# Altium schematic symbol library Analog_DAC.SchLib: 132 symbols (part 2 of 2)
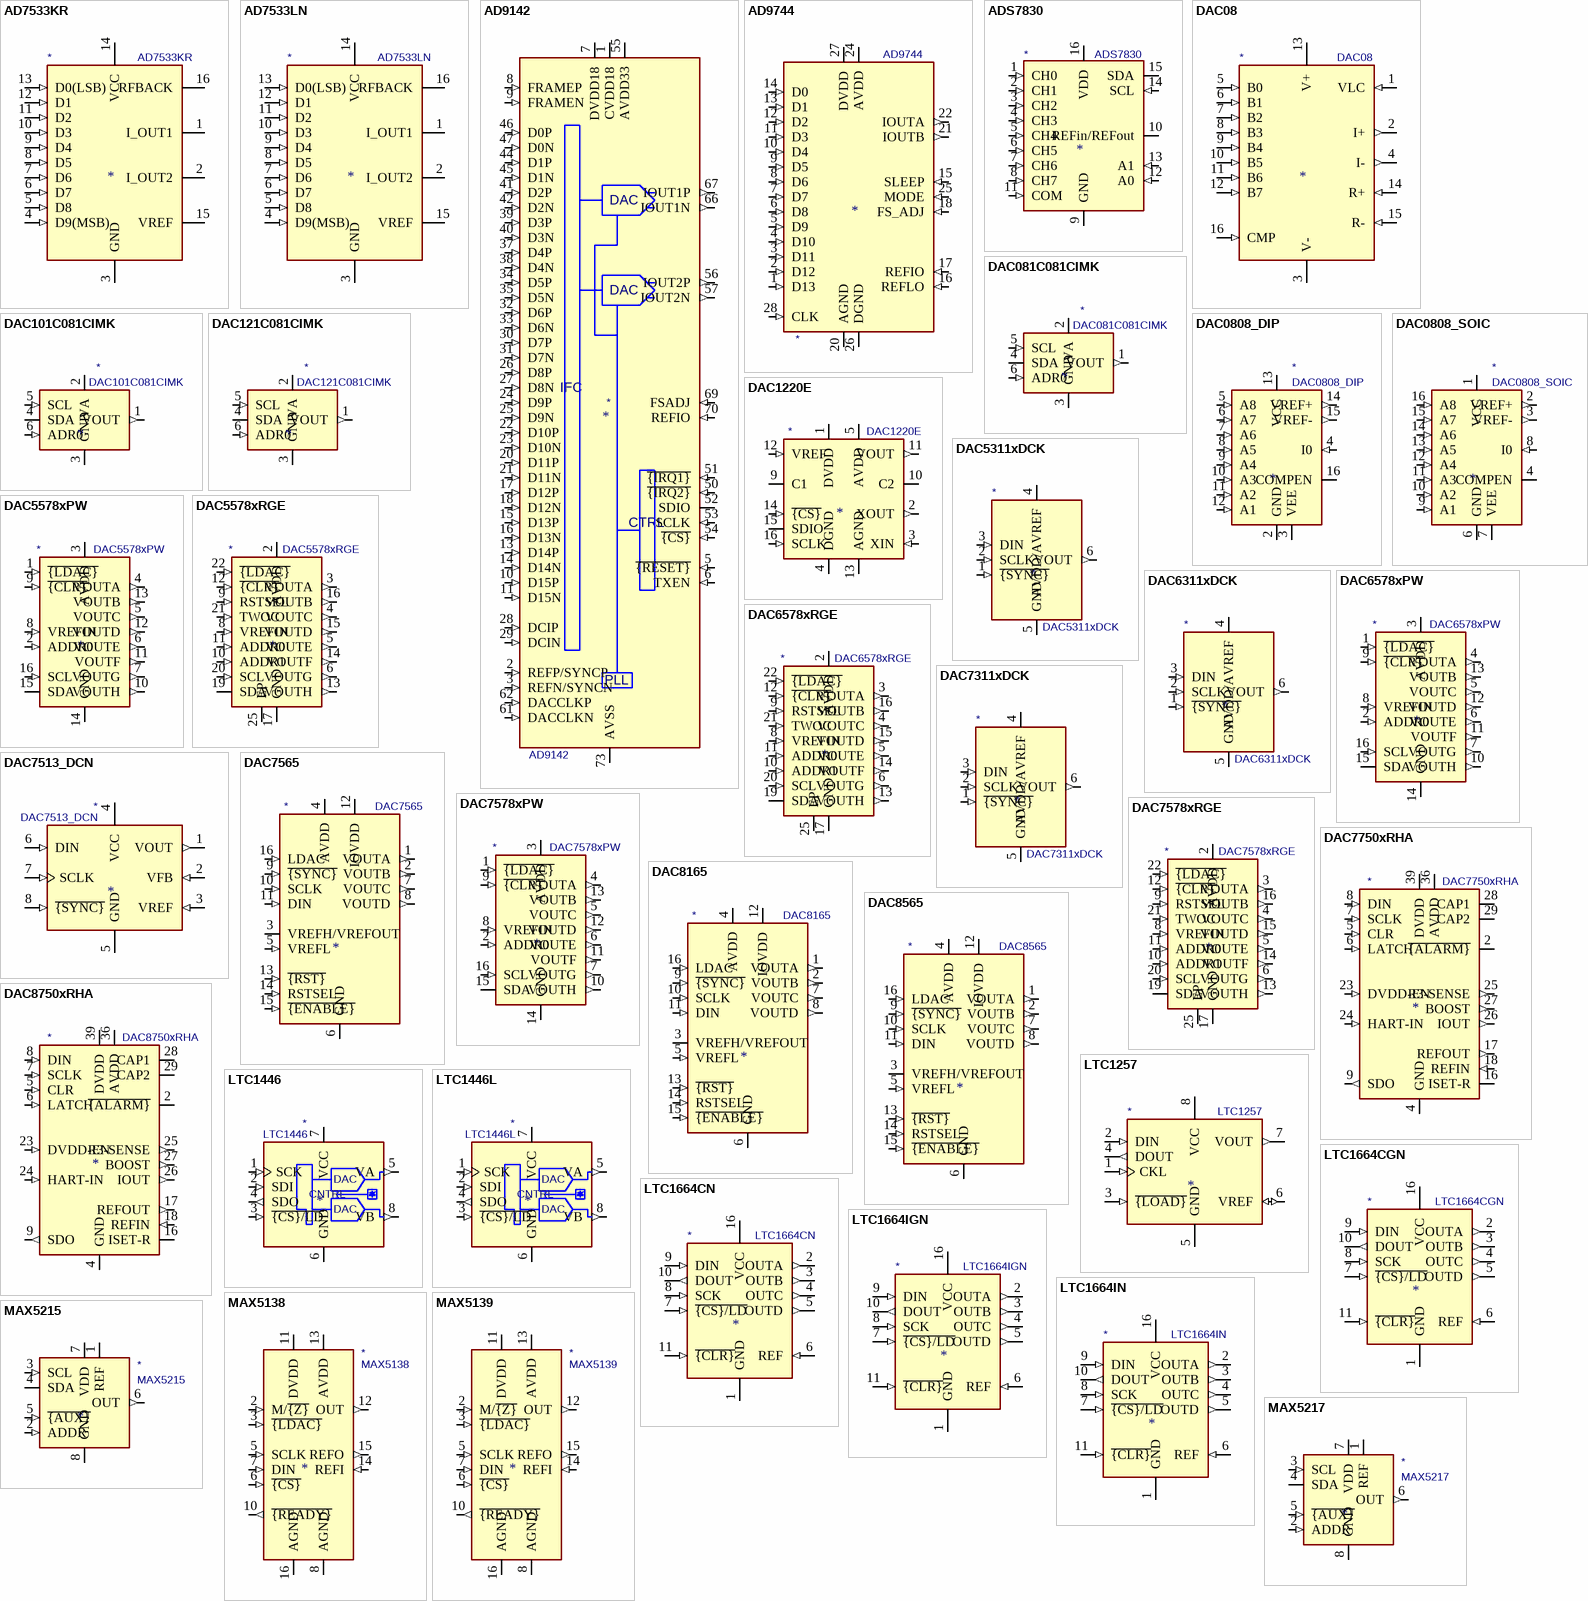
[diagram p5: symbols AD7533KR to MAX5217]

## MAX5138
designator *  value MAX5138
ki_keywords: 16-bit DAC 1CH; ki_description: Low-Power, Single, 16-Bit, Buffered Voltage-Output DAC; ki_fp_filters: TQFN*1EP*3x3mm*P0.5mm*; Footprint: Package_DFN_QFN:TQFN-16-1EP_3x3mm_P0.5mm_EP1.23x1.23mm; Supplier: https://datasheets.maximintegrated.com/en/ds/MAX5138-MAX5139.pdf
footprint TQFN-16-1EP_3x3mm_P0.5mm_EP1.23x1.23mm
pins: 1 NC (in) hidden, 2 M/~{{Z}} (in), 3 ~{{LDAC}} (in), 4 NC (in) hidden, 5 SCLK (in), 6 ~{{CS}} (in), 7 DIN (in), 8 AGND (power), 9 NC (in) hidden, 10 ~{{READY}} (out), 11 DVDD (power), 12 OUT (out), 13 AVDD (power), 14 REFI (in), 15 REFO (out), 16 AGND (power)

## MAX5139
designator *  value MAX5139
ki_keywords: 12-bit DAC 1CH; ki_description: Low-Power, Single, 12-Bit, Buffered Voltage-Output DAC; ki_fp_filters: TQFN*1EP*3x3mm*P0.5mm*; Footprint: Package_DFN_QFN:TQFN-16-1EP_3x3mm_P0.5mm_EP1.23x1.23mm; Supplier: https://datasheets.maximintegrated.com/en/ds/MAX5138-MAX5139.pdf
footprint TQFN-16-1EP_3x3mm_P0.5mm_EP1.23x1.23mm
pins: 1 NC (in) hidden, 2 M/~{{Z}} (in), 3 ~{{LDAC}} (in), 4 NC (in) hidden, 5 SCLK (in), 6 ~{{CS}} (in), 7 DIN (in), 8 AGND (power), 9 NC (in) hidden, 10 ~{{READY}} (out), 11 DVDD (power), 12 OUT (out), 13 AVDD (power), 14 REFI (in), 15 REFO (out), 16 AGND (power)

## MAX5215
designator *  value MAX5215
ki_keywords: DA 14 Bit 1 ch; ki_description: Digital to analog, 14 Bit, 1 ch, 2.7 - 5.5 VDD, I2C, uMAX-8; ki_fp_filters: MSOP*3x3mm*P0.65mm*; Footprint: Package_SO:MSOP-8_3x3mm_P0.65mm; Supplier: https://datasheets.maximintegrated.com/en/ds/MAX5215-MAX5217.pdf
footprint MSOP-8_3x3mm_P0.65mm
pins: 1 REF (power), 2 ADDR (in), 3 SCL (in), 4 SDA (io), 5 ~{{AUX}} (in), 6 OUT (out), 7 VDD (power), 8 GND (power)

## MAX5217
designator *  value MAX5217
ki_keywords: DA 16 Bit 1 ch; ki_description: Digital to analog, 16 Bit, 1 ch, 2.7 - 5.5 VDD, I2C, uMAX-8; ki_fp_filters: MSOP*3x3mm*P0.65mm*; Footprint: Package_SO:MSOP-8_3x3mm_P0.65mm; Supplier: https://datasheets.maximintegrated.com/en/ds/MAX5215-MAX5217.pdf
footprint MSOP-8_3x3mm_P0.65mm
pins: 1 REF (power), 2 ADDR (in), 3 SCL (in), 4 SDA (io), 5 ~{{AUX}} (in), 6 OUT (out), 7 VDD (power), 8 GND (power)

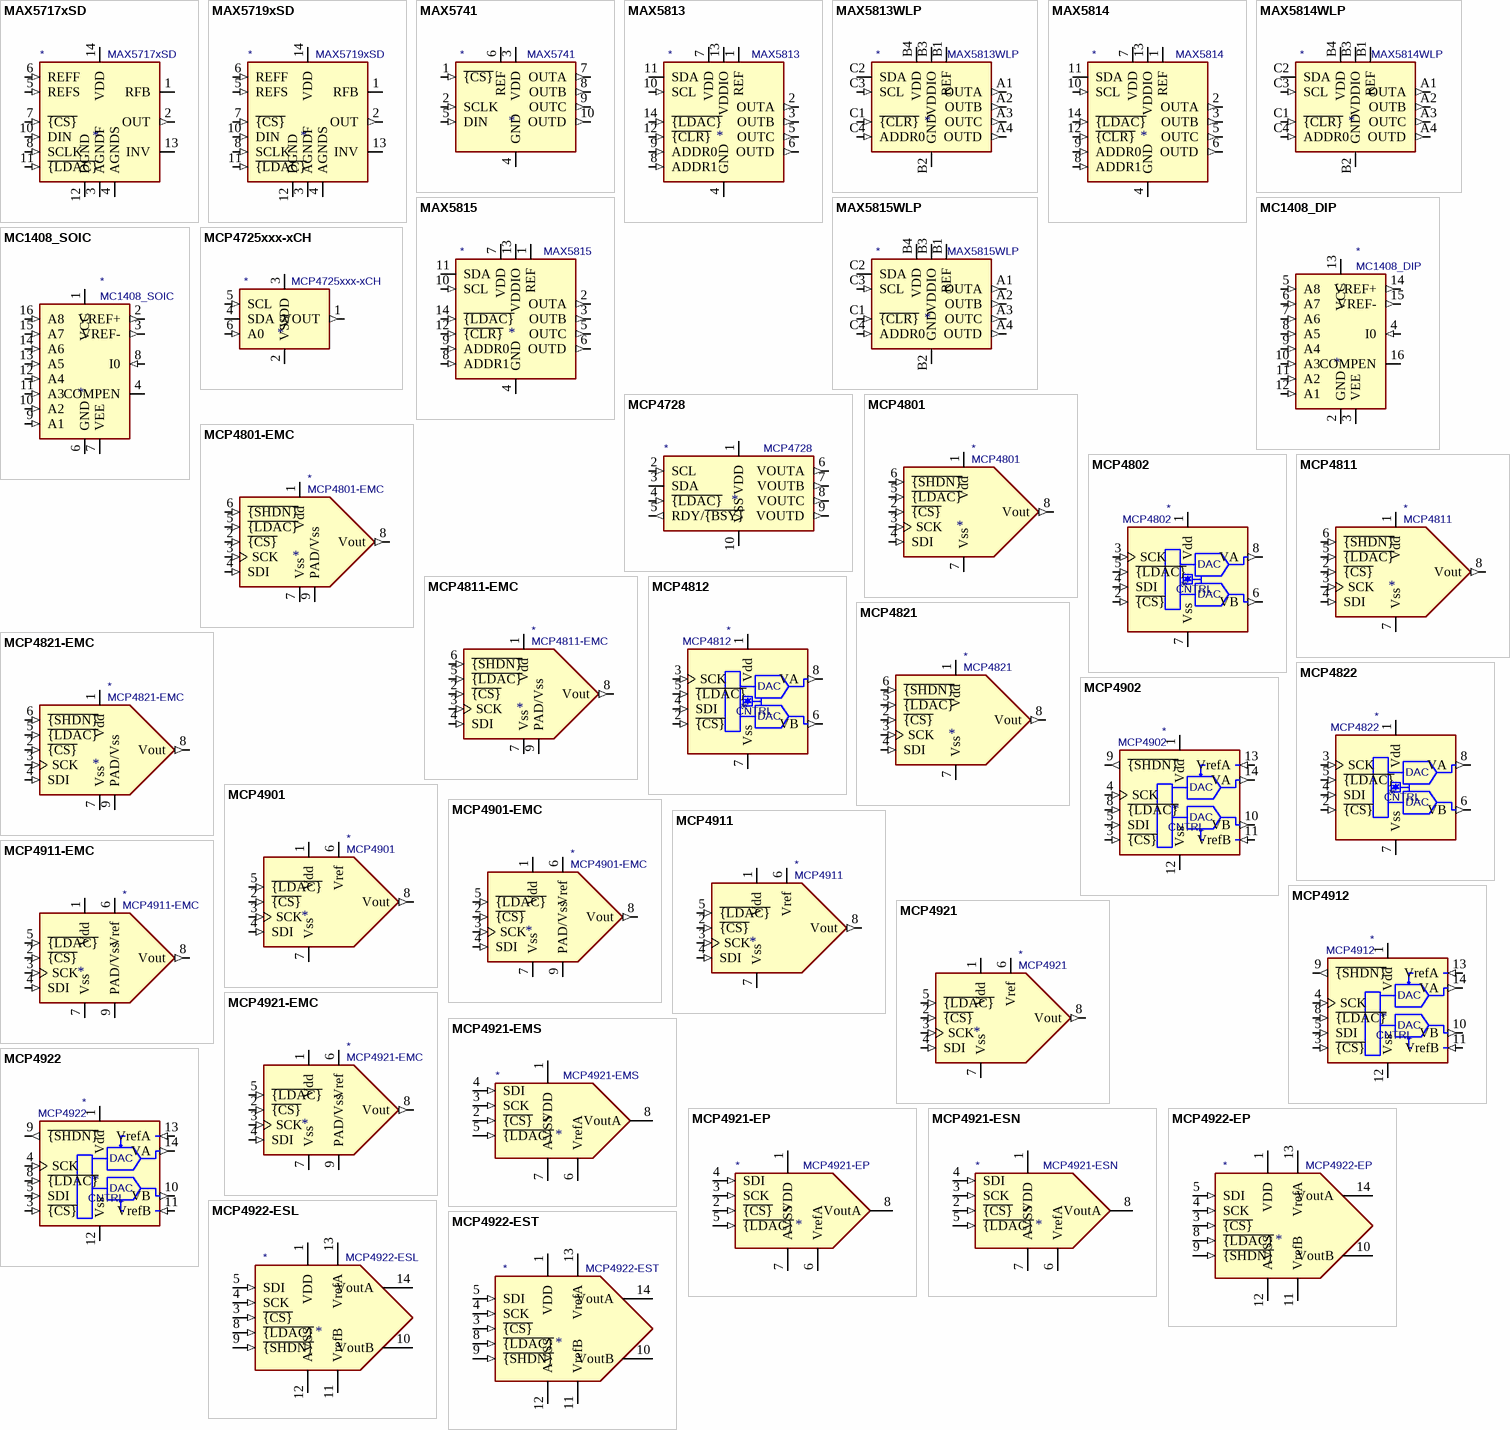
[diagram p3: symbols MAX5717xSD to MCP4922-EST]

## MAX5717xSD
designator *  value MAX5717xSD
ki_keywords: DAC; ki_description: 16-bit Voltage Digital-to-Analog converter, SOIC-14; ki_fp_filters: SOIC*3.9x8.7mm*P1.27mm*; Footprint: Package_SO:SOIC-14_3.9x8.7mm_P1.27mm; Supplier: https://datasheets.maximintegrated.com/en/ds/MAX5717-MAX5719.pdf
footprint SOIC-14_3.9x8.7mm_P1.27mm
pins: 1 RFB, 2 OUT (out), 3 AGNDF (power), 4 AGNDS (power), 5 REFS (in), 6 REFF (in), 7 ~{{CS}} (in), 8 SCLK (in), 9 NC (in) hidden, 10 DIN (in), 11 ~{{LDAC}} (in), 12 DGND (power), 13 INV, 14 VDD (power)

## MAX5719xSD
designator *  value MAX5719xSD
ki_keywords: DAC; ki_description: 20-bit Voltage Digital-to-Analog converter, SOIC-14; ki_fp_filters: SOIC*3.9x8.7mm*P1.27mm*; Footprint: Package_SO:SOIC-14_3.9x8.7mm_P1.27mm; Supplier: https://datasheets.maximintegrated.com/en/ds/MAX5717-MAX5719.pdf
footprint SOIC-14_3.9x8.7mm_P1.27mm
pins: 1 RFB, 2 OUT (out), 3 AGNDF (power), 4 AGNDS (power), 5 REFS (in), 6 REFF (in), 7 ~{{CS}} (in), 8 SCLK (in), 9 NC (in) hidden, 10 DIN (in), 11 ~{{LDAC}} (in), 12 DGND (power), 13 INV, 14 VDD (power)

## MAX5741
designator *  value MAX5741
ki_keywords: DA 8 Bit 4 ch; ki_description: Digital to analog, 10 Bit, 4 ch, 2.7 - 5.5 VDD, SPI, uMAX-10; ki_fp_filters: MSOP*3x3mm?P0.5mm*; Footprint: Package_SO:MSOP-10_3x3mm_P0.5mm; Supplier: https://datasheets.maximintegrated.com/en/ds/MAX5741.pdf
footprint MSOP-10_3x3mm_P0.5mm
pins: 1 ~{{CS}} (in), 2 SCLK (in), 3 VDD (power), 4 GND (power), 5 DIN (in), 6 REF (power), 7 OUTA (out), 8 OUTB (out), 9 OUTC (out), 10 OUTD (out)

## MAX5813
designator *  value MAX5813
ki_keywords: DA 8 Bit 4 ch; ki_description: Digital to analog, 8 Bit, 4 ch, 2.7 - 5.5 VDD, I2C, TSSOP-14; ki_fp_filters: *TSSOP*14*4.4*; Supplier: http://datasheets.maximintegrated.com/en/ds/MAX5813-MAX5815.pdf
pins: 1 REF (power), 2 OUTA (out), 3 OUTB (out), 4 GND (power), 5 OUTC (out), 6 OUTD (out), 7 VDD (power), 8 ADDR1 (in), 9 ADDR0 (in), 10 SCL (in), 11 SDA (io), 12 ~{{CLR}} (in), 13 VDDIO (power), 14 ~{{LDAC}} (in)

## MAX5813WLP
designator *  value MAX5813WLP
ki_keywords: DA 8 Bit 4 ch; ki_description: Digital to analog, 8 Bit, 4 ch, 2.7 - 5.5 VDD, I2C, TSSOP-14, Maxim_WLP-12; ki_fp_filters: *Maxim*WLP*12*; Supplier: http://datasheets.maximintegrated.com/en/ds/MAX5813-MAX5815.pdf
pins: A1 OUTA (out), A2 OUTB (out), A3 OUTC (out), A4 OUTD (out), B1 REF (power), B2 GND (power), B3 VDDIO (power), B4 VDD (power), C1 ~{{CLR}} (in), C2 SDA (io), C3 SCL (in), C4 ADDR0 (in)

## MAX5814
designator *  value MAX5814
ki_keywords: DA 10 Bit 4 ch; ki_description: Digital to analog, 10 Bit, 4 ch, 2.7 - 5.5 VDD, I2C, TSSOP-14; ki_fp_filters: *TSSOP*14*4.4*; Supplier: http://datasheets.maximintegrated.com/en/ds/MAX5813-MAX5815.pdf
pins: 1 REF (power), 2 OUTA (out), 3 OUTB (out), 4 GND (power), 5 OUTC (out), 6 OUTD (out), 7 VDD (power), 8 ADDR1 (in), 9 ADDR0 (in), 10 SCL (in), 11 SDA (io), 12 ~{{CLR}} (in), 13 VDDIO (power), 14 ~{{LDAC}} (in)

## MAX5814WLP
designator *  value MAX5814WLP
ki_keywords: DA 10 Bit 4 ch; ki_description: Digital to analog, 10 Bit, 4 ch, 2.7 - 5.5 VDD, I2C, TSSOP-14, Maxim_WLP-12; ki_fp_filters: *Maxim*WLP*12*; Supplier: http://datasheets.maximintegrated.com/en/ds/MAX5813-MAX5815.pdf
pins: A1 OUTA (out), A2 OUTB (out), A3 OUTC (out), A4 OUTD (out), B1 REF (power), B2 GND (power), B3 VDDIO (power), B4 VDD (power), C1 ~{{CLR}} (in), C2 SDA (io), C3 SCL (in), C4 ADDR0 (in)

## MAX5815
designator *  value MAX5815
ki_keywords: DA 12 Bit 4 ch; ki_description: Digital to analog, 12 Bit, 4 ch, 2.7 - 5.5 VDD, I2C, TSSOP-14; ki_fp_filters: *TSSOP*14*4.4*; Supplier: http://datasheets.maximintegrated.com/en/ds/MAX5813-MAX5815.pdf
pins: 1 REF (power), 2 OUTA (out), 3 OUTB (out), 4 GND (power), 5 OUTC (out), 6 OUTD (out), 7 VDD (power), 8 ADDR1 (in), 9 ADDR0 (in), 10 SCL (in), 11 SDA (io), 12 ~{{CLR}} (in), 13 VDDIO (power), 14 ~{{LDAC}} (in)

## MAX5815WLP
designator *  value MAX5815WLP
ki_keywords: DA 12 Bit 4 ch; ki_description: Digital to analog, 12 Bit, 4 ch, 2.7 - 5.5 VDD, I2C, TSSOP-14, Maxim_WLP-12; ki_fp_filters: *Maxim*WLP*12*; Supplier: http://datasheets.maximintegrated.com/en/ds/MAX5813-MAX5815.pdf
pins: A1 OUTA (out), A2 OUTB (out), A3 OUTC (out), A4 OUTD (out), B1 REF (power), B2 GND (power), B3 VDDIO (power), B4 VDD (power), C1 ~{{CLR}} (in), C2 SDA (io), C3 SCL (in), C4 ADDR0 (in)

## MC1408_DIP
designator *  value MC1408_DIP
ki_keywords: 8 bit multiplying DAC; ki_description: 8-bit multiplying DAC; ki_fp_filters: DIP*W7.62mm*; Footprint: Package_DIP:DIP-16_W7.62mm; Supplier: http://www.pinballpcb.com/datasheets/OnMC1408-dac.pdf
footprint DIP-16_W7.62mm
pins: 1 NC (in) hidden, 2 GND (power), 3 VEE (power), 4 I0 (in), 5 A8 (in), 6 A7 (in), 7 A6 (in), 8 A5 (in), 9 A4 (in), 10 A3 (in), 11 A2 (in), 12 A1 (in), 13 VCC (power), 14 VREF+ (out), 15 VREF- (out), 16 COMPEN

## MC1408_SOIC
designator *  value MC1408_SOIC
ki_keywords: 8 bit multiplying DAC; ki_description: 8-bit multiplying DAC; ki_fp_filters: SOIC*3.9x9.9mm*P1.27mm*; Footprint: Package_SO:SOIC-16_3.9x9.9mm_P1.27mm; Supplier: http://www.pinballpcb.com/datasheets/OnMC1408-dac.pdf
footprint SOIC-16_3.9x9.9mm_P1.27mm
pins: 1 VCC (power), 2 VREF+ (out), 3 VREF- (out), 4 COMPEN, 5 NC (in) hidden, 6 GND (power), 7 VEE (power), 8 I0 (in), 9 A1 (in), 10 A2 (in), 11 A3 (in), 12 A4 (in), 13 A5 (in), 14 A6 (in), 15 A7 (in), 16 A8 (in)

## MCP4725xxx-xCH
designator *  value MCP4725xxx-xCH
ki_keywords: dac twi; ki_description: 12-bit Digital-to-Analog Converter, integrated EEPROM, I2C interface, SOT-23-6; ki_fp_filters: SOT?23*; Footprint: Package_TO_SOT_SMD:SOT-23-6; Supplier: http://ww1.microchip.com/downloads/en/DeviceDoc/22039d.pdf
footprint SOT-23-6
pins: 1 VOUT (out), 2 VSS (power), 3 VDD (power), 4 SDA (io), 5 SCL (in), 6 A0 (in)

## MCP4728
designator *  value MCP4728
ki_keywords: dac i2c; ki_description: 12-bit digital to analog converter, quad output, 2.048V internal reference, integrated EEPROM, I2C interface; ki_fp_filters: *SOP*3x3mm*P0.5mm*; Footprint: Package_SO:MSOP-10_3x3mm_P0.5mm; Supplier: http://ww1.microchip.com/downloads/en/DeviceDoc/22187E.pdf
footprint MSOP-10_3x3mm_P0.5mm
pins: 1 VDD (power), 2 SCL (in), 3 SDA (io), 4 ~{{LDAC}} (in), 5 RDY/~{{BSY}} (out), 6 VOUTA (out), 7 VOUTB (out), 8 VOUTC (out), 9 VOUTD (out), 10 VSS (power)

## MCP4801
designator *  value MCP4801
ki_keywords: 8-Bit DAC SPI Reference 1ch; ki_description: 8-Bit D/A Converters with SPI Interface, internal Reference (2.048V); ki_fp_filters: DIP*W7.62mm* MSOP*3x3mm*P0.65mm* SOIC*3.9x4.9mm*P1.27mm*; Supplier: http://ww1.microchip.com/downloads/en/DeviceDoc/22244B.pdf
pins: 1 Vdd (power), 2 ~{{CS}} (in), 3 SCK (in), 4 SDI (in), 5 ~{{LDAC}} (in), 6 ~{{SHDN}} (in), 7 Vss (power), 8 Vout (out)

## MCP4801-EMC
designator *  value MCP4801-EMC
ki_keywords: 8-Bit DAC SPI Reference 1ch; ki_description: 8-Bit D/A Converters with SPI Interface, internal Reference (2.048V); ki_fp_filters: DFN*1EP*3x2mm*P0.5mm*; Footprint: Package_DFN_QFN:DFN-8-1EP_3x2mm_P0.5mm_EP1.75x1.45mm; Supplier: http://ww1.microchip.com/downloads/en/DeviceDoc/22244B.pdf
footprint DFN-8-1EP_3x2mm_P0.5mm_EP1.75x1.45mm
pins: 1 Vdd (power), 2 ~{{CS}} (in), 3 SCK (in), 4 SDI (in), 5 ~{{LDAC}} (in), 6 ~{{SHDN}} (in), 7 Vss (power), 8 Vout (out), 9 PAD/Vss (power)

## MCP4802
designator *  value MCP4802
ki_keywords: 8-Bit DAC SPI Reference 2ch; ki_description: 2-Channel 8-Bit D/A Converters with SPI Interface and Internal Reference (2.048V); ki_fp_filters: DIP*W7.62mm* SOIC*3.9x4.9mm*P1.27mm* MSOP*3x3mm*P0.65mm*; Supplier: http://ww1.microchip.com/downloads/en/DeviceDoc/20002249B.pdf
pins: 1 Vdd (power), 2 ~{{CS}} (in), 3 SCK (in), 4 SDI (in), 5 ~{{LDAC}} (in), 6 VB (out), 7 Vss (power), 8 VA (out)
text: DAC; CNTRL

## MCP4811
designator *  value MCP4811
ki_keywords: 10-Bit DAC SPI Reference 1ch; ki_description: 10-Bit D/A Converters with SPI Interface, internal Reference (2.048V); ki_fp_filters: DIP*W7.62mm* MSOP*3x3mm*P0.65mm* SOIC*3.9x4.9mm*P1.27mm*; Supplier: http://ww1.microchip.com/downloads/en/DeviceDoc/22244B.pdf
pins: 1 Vdd (power), 2 ~{{CS}} (in), 3 SCK (in), 4 SDI (in), 5 ~{{LDAC}} (in), 6 ~{{SHDN}} (in), 7 Vss (power), 8 Vout (out)

## MCP4811-EMC
designator *  value MCP4811-EMC
ki_keywords: 10-Bit DAC SPI Reference 1ch; ki_description: 10-Bit D/A Converters with SPI Interface, internal Reference (2.048V); ki_fp_filters: DFN*1EP*3x2mm*P0.5mm*; Footprint: Package_DFN_QFN:DFN-8-1EP_3x2mm_P0.5mm_EP1.75x1.45mm; Supplier: http://ww1.microchip.com/downloads/en/DeviceDoc/22244B.pdf
footprint DFN-8-1EP_3x2mm_P0.5mm_EP1.75x1.45mm
pins: 1 Vdd (power), 2 ~{{CS}} (in), 3 SCK (in), 4 SDI (in), 5 ~{{LDAC}} (in), 6 ~{{SHDN}} (in), 7 Vss (power), 8 Vout (out), 9 PAD/Vss (power)

## MCP4812
designator *  value MCP4812
ki_keywords: 10-Bit DAC SPI Reference 2ch; ki_description: 2-Channel 10-Bit D/A Converters with SPI Interface and Internal Reference (2.048V); ki_fp_filters: DIP*W7.62mm* SOIC*3.9x4.9mm*P1.27mm* MSOP*3x3mm*P0.65mm*; Supplier: http://ww1.microchip.com/downloads/en/DeviceDoc/20002249B.pdf
pins: 1 Vdd (power), 2 ~{{CS}} (in), 3 SCK (in), 4 SDI (in), 5 ~{{LDAC}} (in), 6 VB (out), 7 Vss (power), 8 VA (out)
text: DAC; CNTRL

## MCP4821
designator *  value MCP4821
ki_keywords: 12-Bit DAC SPI Reference 1ch; ki_description: 12-Bit D/A Converters with SPI Interface, internal Reference (2.048V); ki_fp_filters: DIP*W7.62mm* MSOP*3x3mm*P0.65mm* SOIC*3.9x4.9mm*P1.27mm*; Supplier: http://ww1.microchip.com/downloads/en/DeviceDoc/22244B.pdf
pins: 1 Vdd (power), 2 ~{{CS}} (in), 3 SCK (in), 4 SDI (in), 5 ~{{LDAC}} (in), 6 ~{{SHDN}} (in), 7 Vss (power), 8 Vout (out)

## MCP4821-EMC
designator *  value MCP4821-EMC
ki_keywords: 12-Bit DAC SPI Reference 1ch; ki_description: 12-Bit D/A Converters with SPI Interface, internal Reference (2.048V); ki_fp_filters: DFN*1EP*3x2mm*P0.5mm*; Footprint: Package_DFN_QFN:DFN-8-1EP_3x2mm_P0.5mm_EP1.75x1.45mm; Supplier: http://ww1.microchip.com/downloads/en/DeviceDoc/22244B.pdf
footprint DFN-8-1EP_3x2mm_P0.5mm_EP1.75x1.45mm
pins: 1 Vdd (power), 2 ~{{CS}} (in), 3 SCK (in), 4 SDI (in), 5 ~{{LDAC}} (in), 6 ~{{SHDN}} (in), 7 Vss (power), 8 Vout (out), 9 PAD/Vss (power)

## MCP4822
designator *  value MCP4822
ki_keywords: 12-Bit DAC SPI Reference 2ch; ki_description: 2-Channel 12-Bit D/A Converters with SPI Interface and Internal Reference (2.048V); ki_fp_filters: DIP*W7.62mm* SOIC*3.9x4.9mm*P1.27mm* MSOP*3x3mm*P0.65mm*; Supplier: http://ww1.microchip.com/downloads/en/DeviceDoc/20002249B.pdf
pins: 1 Vdd (power), 2 ~{{CS}} (in), 3 SCK (in), 4 SDI (in), 5 ~{{LDAC}} (in), 6 VB (out), 7 Vss (power), 8 VA (out)
text: DAC; CNTRL

## MCP4901
designator *  value MCP4901
ki_keywords: 8-Bit DAC SPI  1ch; ki_description: 8-Bit D/A Converters with SPI Interface; ki_fp_filters: DIP*W7.62mm* MSOP*3x3mm*P0.65mm* SOIC*3.9x4.9mm*P1.27mm*; Supplier: http://ww1.microchip.com/downloads/en/DeviceDoc/22248a.pdf
pins: 1 Vdd (power), 2 ~{{CS}} (in), 3 SCK (in), 4 SDI (in), 5 ~{{LDAC}} (in), 6 Vref (power), 7 Vss (power), 8 Vout (out)

## MCP4901-EMC
designator *  value MCP4901-EMC
ki_keywords: 8-Bit DAC SPI  1ch; ki_description: 8-Bit D/A Converters with SPI Interface; ki_fp_filters: DFN*1EP*3x2mm*P0.5mm*; Footprint: Package_DFN_QFN:DFN-8-1EP_3x2mm_P0.5mm_EP1.75x1.45mm; Supplier: http://ww1.microchip.com/downloads/en/DeviceDoc/22248a.pdf
footprint DFN-8-1EP_3x2mm_P0.5mm_EP1.75x1.45mm
pins: 1 Vdd (power), 2 ~{{CS}} (in), 3 SCK (in), 4 SDI (in), 5 ~{{LDAC}} (in), 6 Vref (power), 7 Vss (power), 8 Vout (out), 9 PAD/Vss (power)

## MCP4902
designator *  value MCP4902
ki_keywords: 8-Bit DAC SPI  2ch; ki_description: 2-Channel 8-Bit D/A Converters with SPI Interface; ki_fp_filters: DIP*W7.62mm* SOIC*3.9x8.7mm*P1.27mm* TSSOP*4.4x5mm*P0.65mm*; Supplier: http://ww1.microchip.com/downloads/en/DeviceDoc/22250A.pdf
pins: 1 Vdd (power), 2 NC (in) hidden, 3 ~{{CS}} (in), 4 SCK (in), 5 SDI (in), 6 NC (in) hidden, 7 NC (in) hidden, 8 ~{{LDAC}} (in), 9 ~{{SHDN}} (out), 10 VB (out), 11 VrefB (in), 12 Vss (power), 13 VrefA (in), 14 VA (out)
text: DAC; CNTRL

## MCP4911
designator *  value MCP4911
ki_keywords: 10-Bit DAC SPI 1ch; ki_description: 10-Bit D/A Converters with SPI Interface; ki_fp_filters: DIP*W7.62mm* MSOP*3x3mm*P0.65mm* SOIC*3.9x4.9mm*P1.27mm*; Supplier: http://ww1.microchip.com/downloads/en/DeviceDoc/22248a.pdf
pins: 1 Vdd (power), 2 ~{{CS}} (in), 3 SCK (in), 4 SDI (in), 5 ~{{LDAC}} (in), 6 Vref (power), 7 Vss (power), 8 Vout (out)

## MCP4911-EMC
designator *  value MCP4911-EMC
ki_keywords: 10-Bit DAC SPI  1ch; ki_description: 10-Bit D/A Converters with SPI Interface; ki_fp_filters: DFN*1EP*3x2mm*P0.5mm*; Footprint: Package_DFN_QFN:DFN-8-1EP_3x2mm_P0.5mm_EP1.75x1.45mm; Supplier: http://ww1.microchip.com/downloads/en/DeviceDoc/22248a.pdf
footprint DFN-8-1EP_3x2mm_P0.5mm_EP1.75x1.45mm
pins: 1 Vdd (power), 2 ~{{CS}} (in), 3 SCK (in), 4 SDI (in), 5 ~{{LDAC}} (in), 6 Vref (power), 7 Vss (power), 8 Vout (out), 9 PAD/Vss (power)

## MCP4912
designator *  value MCP4912
ki_keywords: 10-Bit DAC SPI 2ch; ki_description: 2-Channel 10-Bit D/A Converters with SPI Interface; ki_fp_filters: DIP*W7.62mm* SOIC*3.9x8.7mm*P1.27mm* TSSOP*4.4x5mm*P0.65mm*; Supplier: http://ww1.microchip.com/downloads/en/DeviceDoc/22250A.pdf
pins: 1 Vdd (power), 2 NC (in) hidden, 3 ~{{CS}} (in), 4 SCK (in), 5 SDI (in), 6 NC (in) hidden, 7 NC (in) hidden, 8 ~{{LDAC}} (in), 9 ~{{SHDN}} (out), 10 VB (out), 11 VrefB (in), 12 Vss (power), 13 VrefA (in), 14 VA (out)
text: DAC; CNTRL

## MCP4921
designator *  value MCP4921
ki_keywords: 12-Bit DAC SPI 1ch; ki_description: 12-Bit D/A Converters with SPI Interface; ki_fp_filters: DIP*W7.62mm* MSOP*3x3mm*P0.65mm* SOIC*3.9x4.9mm*P1.27mm*; Supplier: http://ww1.microchip.com/downloads/en/DeviceDoc/22248a.pdf
pins: 1 Vdd (power), 2 ~{{CS}} (in), 3 SCK (in), 4 SDI (in), 5 ~{{LDAC}} (in), 6 Vref (power), 7 Vss (power), 8 Vout (out)

## MCP4921-EMC
designator *  value MCP4921-EMC
ki_keywords: 12-Bit DAC SPI  1ch; ki_description: 12-Bit D/A Converters with SPI Interface; ki_fp_filters: DFN*1EP*3x2mm*P0.5mm*; Footprint: Package_DFN_QFN:DFN-8-1EP_3x2mm_P0.5mm_EP1.75x1.45mm; Supplier: http://ww1.microchip.com/downloads/en/DeviceDoc/22248a.pdf
footprint DFN-8-1EP_3x2mm_P0.5mm_EP1.75x1.45mm
pins: 1 Vdd (power), 2 ~{{CS}} (in), 3 SCK (in), 4 SDI (in), 5 ~{{LDAC}} (in), 6 Vref (power), 7 Vss (power), 8 Vout (out), 9 PAD/Vss (power)

## MCP4921-EMS
designator *  value MCP4921-EMS
ki_keywords: Single DAC 1ch 12bit SPI; ki_description: Single 12-bit Digital to Analog Converter, SPI Interface, MSOP-8; ki_fp_filters: MSOP* SOIC* DIP* PDIP*; Supplier: http://ww1.microchip.com/downloads/en/devicedoc/21897a.pdf
pins: 1 VDD (power), 2 ~{{CS}} (in), 3 SCK (in), 4 SDI (in), 5 ~{{LDAC}} (in), 6 VrefA, 7 AVSS (power), 8 VoutA

## MCP4921-EP
designator *  value MCP4921-EP
ki_keywords: Single DAC 1ch 12bit SPI; ki_description: Single 12-bit Digital to Analog Converter, SPI Interface, PDIP-8; ki_fp_filters: MSOP* SOIC* DIP* PDIP*; Supplier: http://ww1.microchip.com/downloads/en/devicedoc/21897a.pdf
pins: 1 VDD (power), 2 ~{{CS}} (in), 3 SCK (in), 4 SDI (in), 5 ~{{LDAC}} (in), 6 VrefA, 7 AVSS (power), 8 VoutA

## MCP4921-ESN
designator *  value MCP4921-ESN
ki_keywords: Single DAC 1ch 12bit SPI; ki_description: Single 12-bit Digital to Analog Converter, SPI Interface, SOIC-8; ki_fp_filters: MSOP* SOIC* DIP* PDIP*; Supplier: http://ww1.microchip.com/downloads/en/devicedoc/21897a.pdf
pins: 1 VDD (power), 2 ~{{CS}} (in), 3 SCK (in), 4 SDI (in), 5 ~{{LDAC}} (in), 6 VrefA, 7 AVSS (power), 8 VoutA

## MCP4922
designator *  value MCP4922
ki_keywords: 12-Bit DAC SPI 2CH; ki_description: 2-Channel 12-Bit D/A Converters with SPI Interface; ki_fp_filters: DIP*W7.62mm* SOIC*3.9x8.7mm*P1.27mm* TSSOP*4.4x5mm*P0.65mm*; Supplier: http://ww1.microchip.com/downloads/en/DeviceDoc/22250A.pdf
pins: 1 Vdd (power), 2 NC (in) hidden, 3 ~{{CS}} (in), 4 SCK (in), 5 SDI (in), 6 NC (in) hidden, 7 NC (in) hidden, 8 ~{{LDAC}} (in), 9 ~{{SHDN}} (out), 10 VB (out), 11 VrefB (in), 12 Vss (power), 13 VrefA (in), 14 VA (out)
text: DAC; CNTRL

## MCP4922-EP
designator *  value MCP4922-EP
ki_keywords: Dual DAC 1ch 12bit SPI; ki_description: Dual 12-bit Digital to Analog Converter, SPI Interface, PDIP-14; ki_fp_filters: DIP* PDIP* SO* SOIC* TSSOP*; Supplier: http://ww1.microchip.com/downloads/en/devicedoc/21897a.pdf
pins: 1 VDD (power), 2 NC (in) hidden, 3 ~{{CS}} (in), 4 SCK (in), 5 SDI (in), 6 NC (in) hidden, 7 NC (in) hidden, 8 ~{{LDAC}} (in), 9 ~{{SHDN}} (in), 10 VoutB, 11 VrefB, 12 AVSS (power), 13 VrefA, 14 VoutA

## MCP4922-ESL
designator *  value MCP4922-ESL
ki_keywords: Dual DAC 1ch 12bit SPI; ki_description: Dual 12-bit Digital to Analog Converter, SPI Interface, SOIC-14; ki_fp_filters: DIP* PDIP* SO* SOIC* TSSOP*; Supplier: http://ww1.microchip.com/downloads/en/devicedoc/21897a.pdf
pins: 1 VDD (power), 2 NC (in) hidden, 3 ~{{CS}} (in), 4 SCK (in), 5 SDI (in), 6 NC (in) hidden, 7 NC (in) hidden, 8 ~{{LDAC}} (in), 9 ~{{SHDN}} (in), 10 VoutB, 11 VrefB, 12 AVSS (power), 13 VrefA, 14 VoutA

## MCP4922-EST
designator *  value MCP4922-EST
ki_keywords: Dual DAC 1ch 12bit SPI; ki_description: Dual 12-bit Digital to Analog Converter, SPI Interface, TSSOP-14; ki_fp_filters: DIP* PDIP* SO* SOIC* TSSOP*; Supplier: http://ww1.microchip.com/downloads/en/devicedoc/21897a.pdf
pins: 1 VDD (power), 2 NC (in) hidden, 3 ~{{CS}} (in), 4 SCK (in), 5 SDI (in), 6 NC (in) hidden, 7 NC (in) hidden, 8 ~{{LDAC}} (in), 9 ~{{SHDN}} (in), 10 VoutB, 11 VrefB, 12 AVSS (power), 13 VrefA, 14 VoutA

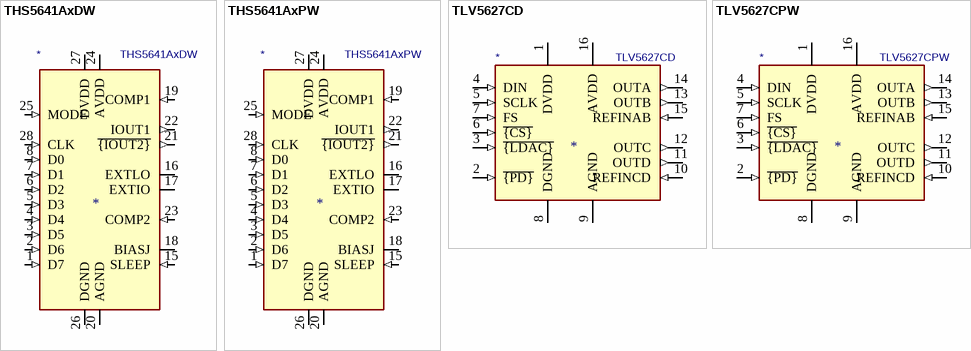
[diagram p4: symbols THS5641AxDW to TLV5627CPW]

## THS5641AxDW
designator *  value THS5641AxDW
ki_keywords: DAC IDAC; ki_description: 8-Bit, 100 MSPS, CommsDAC, Parallel Current DAC, SOIC-28; ki_fp_filters: SOIC*7.5x17.9mm*P1.27mm*; Footprint: Package_SO:SOIC-28W_7.5x17.9mm_P1.27mm; Supplier: http://www.ti.com/lit/ds/symlink/ths5641a.pdf
footprint SOIC-28W_7.5x17.9mm_P1.27mm
pins: 1 D7 (in), 2 D6 (in), 3 D5 (in), 4 D4 (in), 5 D3 (in), 6 D2 (in), 7 D1 (in), 8 D0 (in), 9 NC (in) hidden, 10 NC (in) hidden, 11 NC (in) hidden, 12 NC (in) hidden, 13 NC (in) hidden, 14 NC (in) hidden, 15 SLEEP (in), 16 EXTLO (io), 17 EXTIO (io), 18 BIASJ, 19 COMP1 (in), 20 AGND (power), 21 ~{{IOUT2}} (out), 22 IOUT1 (out), 23 COMP2 (in), 24 AVDD (power), 25 MODE (in), 26 DGND (power), 27 DVDD (power), 28 CLK (in)

## THS5641AxPW
designator *  value THS5641AxPW
ki_keywords: DAC IDAC; ki_description: 8-Bit, 100 MSPS, CommsDAC, Parallel Current DAC, TSSOP-28; ki_fp_filters: TSSOP*4.4x9.7mm*P0.65mm*; Footprint: Package_SO:TSSOP-28_4.4x9.7mm_P0.65mm; Supplier: http://www.ti.com/lit/ds/symlink/ths5641a.pdf
footprint TSSOP-28_4.4x9.7mm_P0.65mm
pins: 1 D7 (in), 2 D6 (in), 3 D5 (in), 4 D4 (in), 5 D3 (in), 6 D2 (in), 7 D1 (in), 8 D0 (in), 9 NC (in) hidden, 10 NC (in) hidden, 11 NC (in) hidden, 12 NC (in) hidden, 13 NC (in) hidden, 14 NC (in) hidden, 15 SLEEP (in), 16 EXTLO (io), 17 EXTIO (io), 18 BIASJ, 19 COMP1 (in), 20 AGND (power), 21 ~{{IOUT2}} (out), 22 IOUT1 (out), 23 COMP2 (in), 24 AVDD (power), 25 MODE (in), 26 DGND (power), 27 DVDD (power), 28 CLK (in)

## TLV5627CD
designator *  value TLV5627CD
ki_keywords: DAC 4CH 8bit; ki_description: 4-Channel DAC, 8bit, w/ Power Down, SOIC-16; Supplier: http://www.ti.com/lit/ds/symlink/tlv5627.pdf
pins: 1 DVDD (power), 2 ~{{PD}} (in), 3 ~{{LDAC}} (in), 4 DIN (in), 5 SCLK (in), 6 ~{{CS}} (in), 7 FS (in), 8 DGND (power), 9 AGND (power), 10 REFINCD (in), 11 OUTD (out), 12 OUTC (out), 13 OUTB (out), 14 OUTA (out), 15 REFINAB (in), 16 AVDD (power)

## TLV5627CPW
designator *  value TLV5627CPW
ki_keywords: DAC 4CH 8bit; ki_description: 4-Channel DAC, 8bit, w/ Power Down, TSSOP-16; Supplier: http://www.ti.com/lit/ds/symlink/tlv5627.pdf
pins: 1 DVDD (power), 2 ~{{PD}} (in), 3 ~{{LDAC}} (in), 4 DIN (in), 5 SCLK (in), 6 ~{{CS}} (in), 7 FS (in), 8 DGND (power), 9 AGND (power), 10 REFINCD (in), 11 OUTD (out), 12 OUTC (out), 13 OUTB (out), 14 OUTA (out), 15 REFINAB (in), 16 AVDD (power)